# EAGLE library part RN4678-V/RM100 (library RN4678 Bluetooth Dual Mode Module)
Check availability <https://pricing.snapeda.com/parts/RN4678-V/RM100/Microchip/view-part?ref=eda>
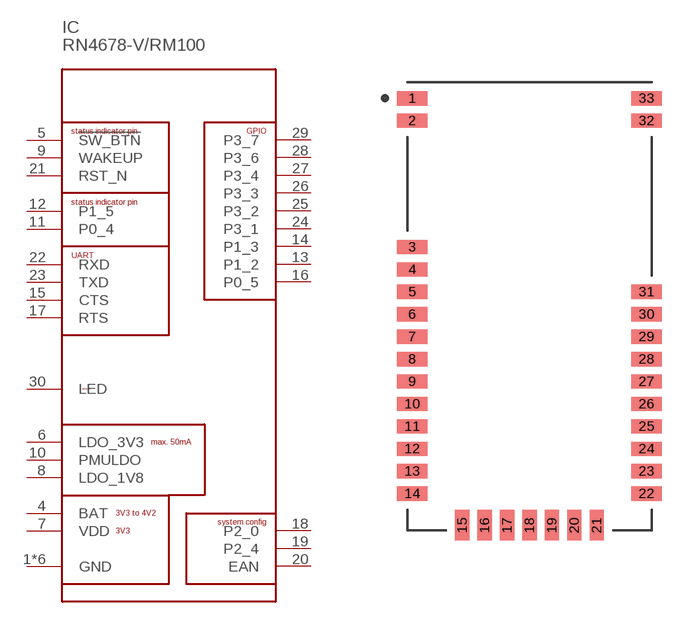
[diagram p0: symbol with the pads of MODULE_RN4678-V/RM100; footprint MODULE_RN4678-V/RM100]

Designator prefix IC

## RN4678-V/RM100  [MODULE_RN4678-V/RM100]
1  GND  pwr
2  GND  pwr
3  GND  pwr
4  BAT  pwr
5  !SW_BTN!  in
6  LDO_3V3  pwr
7  VDD  pwr
8  LDO_1V8  nc
9  WAKEUP  in
10  PMULDO  nc
11  P0_4  out
12  P1_5  out
13  P1_2
14  P1_3
15  CTS  in
16  P0_5
17  RTS  out
18  P2_0  in
19  P2_4  in
20  EAN  in
21  RST_N  in
22  RXD  in
23  TXD  out
24  P3_1
25  P3_2
26  P3_3
27  P3_4
28  P3_6  nc
29  P3_7
30  LED  pwr
31  GND  pwr
32  GND  pwr
33  GND  pwr

## Footprint MODULE_RN4678-V/RM100 (pad centres in mm)
smd 1.5 x 0.7: 1 -5.75,10.2; 2 -5.75,9.1; 3 -5.75,2.9; 4 -5.75,1.8; 5 -5.75,0.7; 6 -5.75,-0.4; 7 -5.75,-1.5; 8 -5.75,-2.6; 9 -5.75,-3.7; 10 -5.75,-4.8; 11 -5.75,-5.9; 12 -5.75,-7; 13 -5.75,-8.1; 14 -5.75,-9.2; 22 5.75,-9.2; 23 5.75,-8.1; 24 5.75,-7; 25 5.75,-5.9; 26 5.75,-4.8; 27 5.75,-3.7; 28 5.75,-2.6; 29 5.75,-1.5; 30 5.75,-0.4; 31 5.75,0.7; 32 5.75,9.1; 33 5.75,10.2
smd 0.7 x 1.5: 15 -3.3,-10.75; 16 -2.2,-10.75; 17 -1.1,-10.75; 18 0,-10.75; 19 1.1,-10.75; 20 2.2,-10.75; 21 3.3,-10.75